# EAGLE library part PIC16F62X (library jason-test)
MICROCONTROLLER EPROM/ROM-based
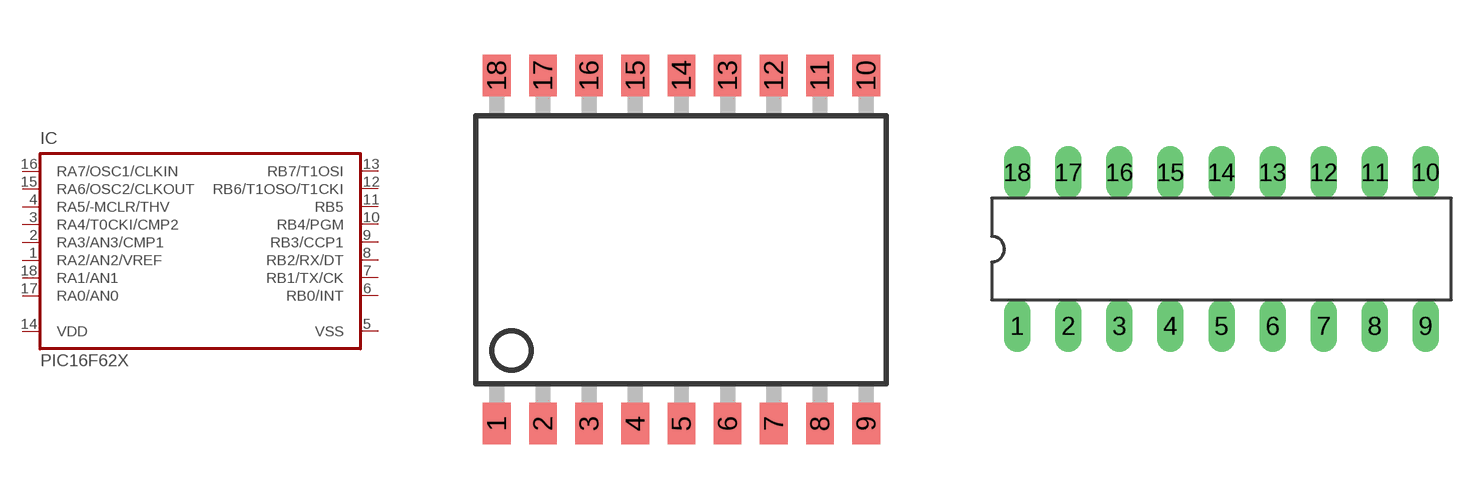
[diagram p6: symbol with the pads of SO-18W; footprints SO-18W, DIL18]

Designator prefix IC

## PIC16F62XSO  [SO-18W]
1  RA2/AN2/VREF
2  RA3/AN3/CMP1
3  RA4/T0CKI/CMP2
4  RA5/-MCLR/THV
5  VSS  pwr
6  RB0/INT
7  RB1/TX/CK
8  RB2/RX/DT
9  RB3/CCP1
10  RB4/PGM
11  RB5
12  RB6/T1OSO/T1CKI
13  RB7/T1OSI
14  VDD  pwr
15  RA6/OSC2/CLKOUT
16  RA7/OSC1/CLKIN
17  RA0/AN0
18  RA1/AN1

## PIC16F62XP  [DIL18]
Pads as for SO-18W

## PIC16F62XFP  [DIL18-F]
Pads as for SO-18W

## Footprint SO-18W (pad centres in mm)
Small Outline Wide Plastic Gull Wing 300-mil body, package type SO
smd 0.762 x 1.143: 1 -5.08,-4.788; 2 -3.81,-4.788; 3 -2.54,-4.788; 4 -1.27,-4.788; 5 0,-4.788; 6 1.27,-4.788; 7 2.54,-4.788; 8 3.81,-4.788; 9 5.08,-4.788; 10 5.08,4.788; 11 3.81,4.788; 12 2.54,4.788; 13 1.27,4.788; 14 0,4.788; 15 -1.27,4.788; 16 -2.54,4.788; 17 -3.81,4.788; 18 -5.08,4.788

## Footprint DIL18 (pad centres in mm)
Dual In Line package type P
drill 0.813 long: 1 -10.16,-3.81; 2 -7.62,-3.81; 3 -5.08,-3.81; 4 -2.54,-3.81; 5 0,-3.81; 6 2.54,-3.81; 7 5.08,-3.81; 8 7.62,-3.81; 9 10.16,-3.81; 10 10.16,3.81; 11 7.62,3.81; 12 5.08,3.81; 13 2.54,3.81; 14 0,3.81; 15 -2.54,3.81; 16 -5.08,3.81; 17 -7.62,3.81; 18 -10.16,3.81

## Footprint DIL18-F (pad centres in mm)
smd 3.81 x 1.016: 1 -5.08,0; 2 -5.08,-2.54; 3 -5.08,-5.08; 4 -5.08,-7.62; 5 -5.08,-10.16; 6 -5.08,-12.7; 7 -5.08,-15.24; 8 -5.08,-17.78; 9 -5.08,-20.32; 10 5.08,-20.32; 11 5.08,-17.78; 12 5.08,-15.24; 13 5.08,-12.7; 14 5.08,-10.16; 15 5.08,-7.62; 16 5.08,-5.08; 17 5.08,-2.54; 18 5.08,0